# EAGLE library part MICRO-USB-5 (library 1484203861886-plan44)
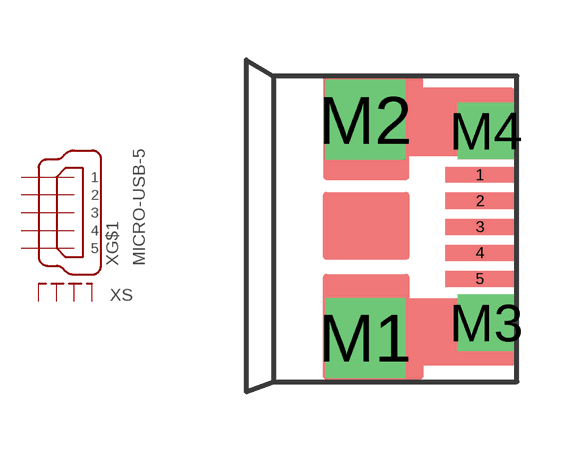
[diagram p3: symbol with the pads of MICRO-USB-AMPHENOL-FCI; footprint MICRO-USB-AMPHENOL-FCI]

Designator prefix X; gates G$1=MICRO-USB-5 S=SHIELD4

## MICRO-USB-532005-501  [MICRO-USB-AMPHENOL-FCI]
1  G$1:1  pas
2  G$1:2  pas
3  G$1:3  pas
4  G$1:4  pas
5  G$1:5  pas
M1  S:S1  pas
M2  S:S2  pas
M3  S:S3  pas
M4  S:S4  pas

## Footprint MICRO-USB-AMPHENOL-FCI (pad centres in mm)
Micro USB 5 Type B - 5 pol AMPHENOL FCI 10103594-0001LF http://www.farnell.com/datasheets/1469075.pdf
smd 1.75 x 0.4: 1 3,1.6; 2 3,0.95; 3 3,0.3; 4 3,-0.35; 5 3,-1
drill 1.3 pad 2 square: M1 0.125,-2.475; M2 0.125,2.975
drill 0.9 pad 1.2 square: M3 3.15,-2.1; M4 3.15,2.7